# EAGLE library part NHD-C0216CZ (library adam - misc)
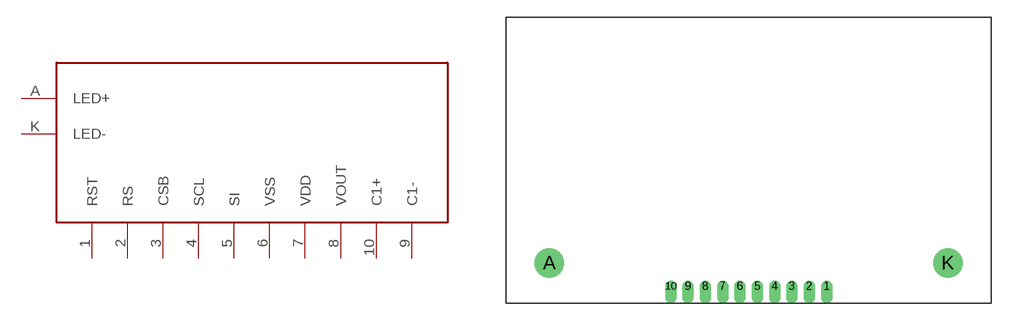
[diagram p1: symbol with the pads of NHD-CO216C2; footprint NHD-CO216C2]

Designator prefix -

## NHD-C0216CZ  [NHD-CO216C2]
1  RST
2  RS
3  CSB
4  SCL
5  SI
6  VSS
7  VDD
8  VOUT
9  C1-
10  C1+
A  LED+
K  LED-

## Footprint NHD-CO216C2 (pad centres in mm)
drill 0.5 offset: 1 6.75,0; 2 5.25,0; 3 3.75,0; 4 2.25,0; 5 0.75,0; 6 -0.75,0; 7 -2.25,0; 8 -3.75,0; 9 -5.25,0; 10 -6.75,0
drill 1.2 pad 2.54 round: A -17.25,2; K 17.25,2